# Altium schematic symbol library A3977LP.SchLib: 1 symbol
Pins are listed as number, name and electrical type; pins without a type are passive.

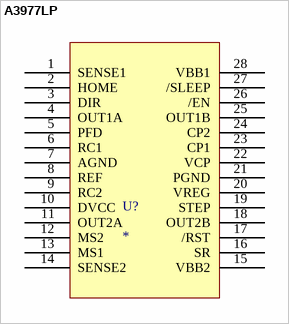
[diagram p0: symbol A3977LP]

## A3977LP
designator U?
Motor Stepper Driver with translator  35V  2.5A
footprint TSSOP28
pins: 1 SENSE1, 2 HOME, 3 DIR, 4 OUT1A, 5 PFD, 6 RC1, 7 AGND, 8 REF, 9 RC2, 10 DVCC, 11 OUT2A, 12 MS2, 13 MS1, 14 SENSE2, 15 VBB2, 16 SR, 17 /RST, 18 OUT2B, 19 STEP, 20 VREG, 21 PGND, 22 VCP, 23 CP1, 24 CP2, 25 OUT1B, 26 /EN, 27 /SLEEP, 28 VBB1